# EAGLE library part EMI7204MUTAG (library Filters)
FILTER LC(PI) 17NH/12PF ESD SMD Manufacturer's datasheet <https://www.onsemi.com/pub/Collateral/EMI7204MU-D.PDF>
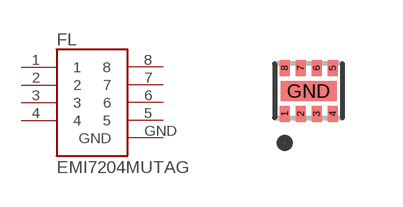
[diagram p11: symbol with the pads of EMI7204MUTAG; footprint EMI7204MUTAG]

Designator prefix FL

## EMI7204MUTAG (CREATED_BY: PCBLayout.com; DIGIKEY_PN: EMI7204MUTAGOSTR-ND; MANUFACTURER: ON Semiconductor; MPN: EMI7204MUTAG; PACKAGE: 8-UFDFN)  [EMI7204MUTAG]
1  1  pas
2  2  pas
3  3  pas
4  4  pas
5  5  pas
6  6  pas
7  7  pas
8  8  pas
GND  GND  pwr

## Footprint EMI7204MUTAG (pad centres in mm)
smd 0.25 x 0.4: 1 -0.6,-0.575; 2 -0.2,-0.575; 3 0.2,-0.575; 4 0.6,-0.575; 5 0.6,0.575; 6 0.2,0.575; 7 -0.2,0.575; 8 -0.6,0.575
smd 1.4 x 0.5: GND 0,0